# Altium integrated library TI Interface Display Driver.IntLib: 102 symbols (part 2 of 3)
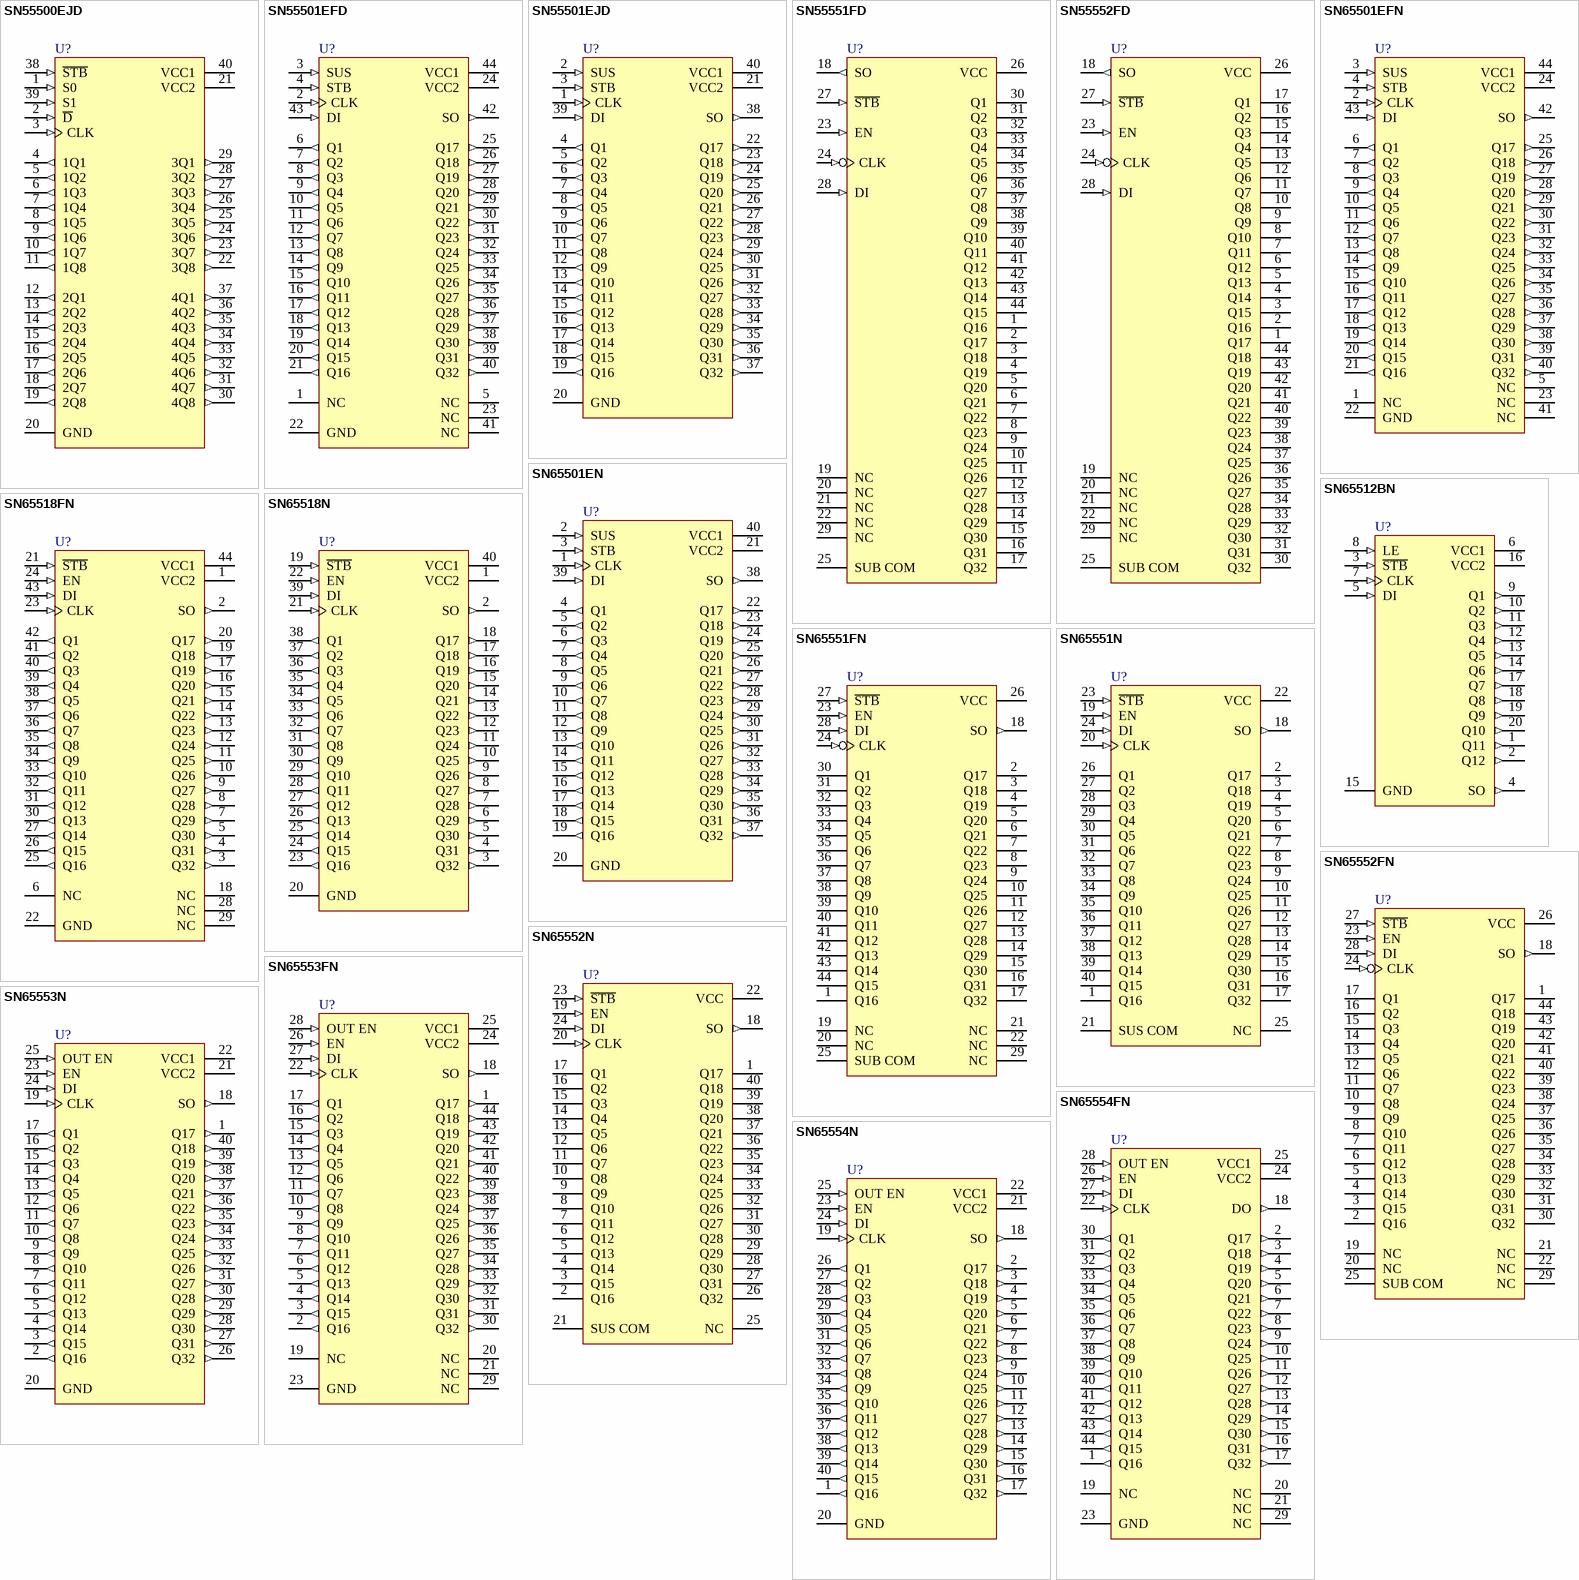
[diagram p5: symbols SN55500EJD to SN65554N]

## SN65552FN
designator U?
Electroluminescent Row Driver; Published: 15-May-2002; LatestRevisionDate: 13-Apr-2006; LatestRevisionNote: IPC-7351 Footprint Added.; DatasheetVersion: Oct-1989; PackageVersion: Oct-1994; PackageReference: FN044; Publisher: Altium Limited; PackageDescription: 44-Pin Leaded Chip Carrier 1.27 mm Pitch; Code_IPC: PLCC-44; ComponentLink1Description: Manufacturer Link; ComponentLink1URL: http://www.ti.com/
footprint FN044_N (Leaded Chip Carrier, 44-Leads, Body 16.6x16.6mm, Pitch 1.27mm, IPC Medium Density)
footprint FN044_L (Leaded Chip Carrier, 44-Leads, Body 16.6x16.6mm, Pitch 1.27mm, IPC High Density)
footprint FN044_M (Leaded Chip Carrier, 44-Leads, Body 16.6x16.6mm, Pitch 1.27mm, IPC Low Density)
3D model SN65552-FN044 (44-Pin Leaded Chip Carrier 1.27 mm Pitch)
pins: 1 Q17 (oc), 2 Q16 (oc), 3 Q15 (oc), 4 Q14 (oc), 5 Q13 (oc), 6 Q12 (oc), 7 Q11 (oc), 8 Q10 (oc), 9 Q9 (oc), 10 Q8 (oc), 11 Q7 (oc), 12 Q6 (oc), 13 Q5 (oc), 14 Q4 (oc), 15 Q3 (oc), 16 Q2 (oc), 17 Q1 (oc), 18 SO (out), 19 NC, 20 NC, 21 NC, 22 NC, 23 EN (in), 24 CLK (in), 25 SUB COM (power), 26 VCC (power), 27 ~{STB} (in), 28 DI (in), 29 NC, 30 Q32 (oc), 31 Q31 (oc), 32 Q30 (oc), 33 Q29 (oc), 34 Q28 (oc), 35 Q27 (oc), 36 Q26 (oc), 37 Q25 (oc), 38 Q24 (oc), 39 Q23 (oc), 40 Q22 (oc), 41 Q21 (oc), 42 Q20 (oc), 43 Q19 (oc), 44 Q18 (oc)

## SN65552N
designator U?
Electroluminescent Row Driver; Published: 15-May-2002; LatestRevisionDate: 29-May-2009; LatestRevisionNote: Component Body Added.; DatasheetVersion: Oct-1989; PackageVersion: Oct-1994; PackageReference: N040; Publisher: Altium Limited; PackageDescription: DIP, 40-Pin, Row Spacing 15.24 mm, Pitch 2.54 mm; Code_JEDEC: MS-011-AC; ComponentLink1Description: Manufacturer Link; ComponentLink1URL: http://www.ti.com/
footprint N040 (DIP, 40-Leads, Row Spacing 15.24mm, Pitch 2.54mm, Body 52.46x13.72mm)
3D model N040 (DIP, 40-Pin, Row Spacing 15.24 mm, Pitch 2.54 mm)
pins: 1 Q17 (oc), 2 Q16 (oc), 3 Q15 (oc), 4 Q14 (oc), 5 Q13 (oc), 6 Q12 (oc), 7 Q11 (oc), 8 Q10 (oc), 9 Q9 (oc), 10 Q8 (oc), 11 Q7 (oc), 12 Q6 (oc), 13 Q5 (oc), 14 Q4 (oc), 15 Q3 (oc), 16 Q2 (oc), 17 Q1 (oc), 18 SO (out), 19 EN (in), 20 CLK (in), 21 SUS COM (power), 22 VCC (power), 23 ~{STB} (in), 24 DI (in), 25 NC, 26 Q32 (oc), 27 Q31 (oc), 28 Q30 (oc), 29 Q29 (oc), 30 Q28 (oc), 31 Q27 (oc), 32 Q26 (oc), 33 Q25 (oc), 34 Q24 (oc), 35 Q23 (oc), 36 Q22 (oc), 37 Q21 (oc), 38 Q20 (oc), 39 Q19 (oc), 40 Q18 (oc)

## SN65553FN
designator U?
Electroluminescent Column Driver; Published: 15-May-2002; LatestRevisionDate: 13-Apr-2006; LatestRevisionNote: IPC-7351 Footprint Added.; DatasheetVersion: Dec-1989; PackageVersion: Oct-1994; PackageReference: FN044; Publisher: Altium Limited; PackageDescription: 44-Pin Leaded Chip Carrier 1.27 mm Pitch; Code_IPC: PLCC-44; ComponentLink1Description: Manufacturer Link; ComponentLink1URL: http://www.ti.com/
footprint FN044_N (Leaded Chip Carrier, 44-Leads, Body 16.6x16.6mm, Pitch 1.27mm, IPC Medium Density)
footprint FN044_L (Leaded Chip Carrier, 44-Leads, Body 16.6x16.6mm, Pitch 1.27mm, IPC High Density)
footprint FN044_M (Leaded Chip Carrier, 44-Leads, Body 16.6x16.6mm, Pitch 1.27mm, IPC Low Density)
3D model SN65553-FN044 (44-Pin Leaded Chip Carrier 1.27 mm Pitch)
pins: 1 Q17 (out), 2 Q16 (out), 3 Q15 (out), 4 Q14 (out), 5 Q13 (out), 6 Q12 (out), 7 Q11 (out), 8 Q10 (out), 9 Q9 (out), 10 Q8 (out), 11 Q7 (out), 12 Q6 (out), 13 Q5 (out), 14 Q4 (out), 15 Q3 (out), 16 Q2 (out), 17 Q1 (out), 18 SO (out), 19 NC, 20 NC, 21 NC, 22 CLK (in), 23 GND (power), 24 VCC2 (power), 25 VCC1 (power), 26 EN (in), 27 DI (in), 28 OUT EN (in), 29 NC, 30 Q32 (out), 31 Q31 (out), 32 Q30 (out), 33 Q29 (out), 34 Q28 (out), 35 Q27 (out), 36 Q26 (out), 37 Q25 (out), 38 Q24 (out), 39 Q23 (out), 40 Q22 (out), 41 Q21 (out), 42 Q20 (out), 43 Q19 (out), 44 Q18 (out)

## SN65553N
designator U?
Electroluminescent Column Driver; Published: 15-May-2002; LatestRevisionDate: 29-May-2009; LatestRevisionNote: Component Body Added.; DatasheetVersion: Dec-1989; PackageVersion: Oct-1994; PackageReference: N040; Publisher: Altium Limited; PackageDescription: DIP, 40-Pin, Row Spacing 15.24 mm, Pitch 2.54 mm; Code_JEDEC: MS-011-AC; ComponentLink1Description: Manufacturer Link; ComponentLink1URL: http://www.ti.com/
footprint N040 (DIP, 40-Leads, Row Spacing 15.24mm, Pitch 2.54mm, Body 52.46x13.72mm)
3D model N040 (DIP, 40-Pin, Row Spacing 15.24 mm, Pitch 2.54 mm)
pins: 1 Q17 (out), 2 Q16 (out), 3 Q15 (out), 4 Q14 (out), 5 Q13 (out), 6 Q12 (out), 7 Q11 (out), 8 Q10 (out), 9 Q9 (out), 10 Q8 (out), 11 Q7 (out), 12 Q6 (out), 13 Q5 (out), 14 Q4 (out), 15 Q3 (out), 16 Q2 (out), 17 Q1 (out), 18 SO (out), 19 CLK (in), 20 GND (power), 21 VCC2 (power), 22 VCC1 (power), 23 EN (in), 24 DI (in), 25 OUT EN (in), 26 Q32 (out), 27 Q31 (out), 28 Q30 (out), 29 Q29 (out), 30 Q28 (out), 31 Q27 (out), 32 Q26 (out), 33 Q25 (out), 34 Q24 (out), 35 Q23 (out), 36 Q22 (out), 37 Q21 (out), 38 Q20 (out), 39 Q19 (out), 40 Q18 (out)

## SN65554FN
designator U?
Electroluminescent Column Driver; Published: 15-May-2002; LatestRevisionDate: 13-Apr-2006; LatestRevisionNote: IPC-7351 Footprint Added.; DatasheetVersion: Dec-1989; PackageVersion: Oct-1994; PackageReference: FN044; Publisher: Altium Limited; PackageDescription: 44-Pin Leaded Chip Carrier 1.27 mm Pitch; Code_IPC: PLCC-44; ComponentLink1Description: Manufacturer Link; ComponentLink1URL: http://www.ti.com/
footprint FN044_N (Leaded Chip Carrier, 44-Leads, Body 16.6x16.6mm, Pitch 1.27mm, IPC Medium Density)
footprint FN044_L (Leaded Chip Carrier, 44-Leads, Body 16.6x16.6mm, Pitch 1.27mm, IPC High Density)
footprint FN044_M (Leaded Chip Carrier, 44-Leads, Body 16.6x16.6mm, Pitch 1.27mm, IPC Low Density)
3D model SN65554-FN044 (44-Pin Leaded Chip Carrier 1.27 mm Pitch)
pins: 1 Q16 (out), 2 Q17 (out), 3 Q18 (out), 4 Q19 (out), 5 Q20 (out), 6 Q21 (out), 7 Q22 (out), 8 Q23 (out), 9 Q24 (out), 10 Q25 (out), 11 Q26 (out), 12 Q27 (out), 13 Q28 (out), 14 Q29 (out), 15 Q30 (out), 16 Q31 (out), 17 Q32 (out), 18 DO (out), 19 NC, 20 NC, 21 NC, 22 CLK (in), 23 GND (power), 24 VCC2 (power), 25 VCC1 (power), 26 EN (in), 27 DI (in), 28 OUT EN (in), 29 NC, 30 Q1 (out), 31 Q2 (out), 32 Q3 (out), 33 Q4 (out), 34 Q5 (out), 35 Q6 (out), 36 Q7 (out), 37 Q8 (out), 38 Q9 (out), 39 Q10 (out), 40 Q11 (out), 41 Q12 (out), 42 Q13 (out), 43 Q14 (out), 44 Q15 (out)

## SN65554N
designator U?
Electroluminescent Column Driver; Published: 15-May-2002; LatestRevisionDate: 29-May-2009; LatestRevisionNote: Component Body Added.; DatasheetVersion: Dec-1989; PackageVersion: Oct-1994; PackageReference: N040; Publisher: Altium Limited; PackageDescription: DIP, 40-Pin, Row Spacing 15.24 mm, Pitch 2.54 mm; Code_JEDEC: MS-011-AC; ComponentLink1Description: Manufacturer Link; ComponentLink1URL: http://www.ti.com/
footprint N040 (DIP, 40-Leads, Row Spacing 15.24mm, Pitch 2.54mm, Body 52.46x13.72mm)
3D model N040 (DIP, 40-Pin, Row Spacing 15.24 mm, Pitch 2.54 mm)
pins: 1 Q16 (out), 2 Q17 (out), 3 Q18 (out), 4 Q19 (out), 5 Q20 (out), 6 Q21 (out), 7 Q22 (out), 8 Q23 (out), 9 Q24 (out), 10 Q25 (out), 11 Q26 (out), 12 Q27 (out), 13 Q28 (out), 14 Q29 (out), 15 Q30 (out), 16 Q31 (out), 17 Q32 (out), 18 SO (out), 19 CLK (in), 20 GND (power), 21 VCC2 (power), 22 VCC1 (power), 23 EN (in), 24 DI (in), 25 OUT EN (in), 26 Q1 (out), 27 Q2 (out), 28 Q3 (out), 29 Q4 (out), 30 Q5 (out), 31 Q6 (out), 32 Q7 (out), 33 Q8 (out), 34 Q9 (out), 35 Q10 (out), 36 Q11 (out), 37 Q12 (out), 38 Q13 (out), 39 Q14 (out), 40 Q15 (out)

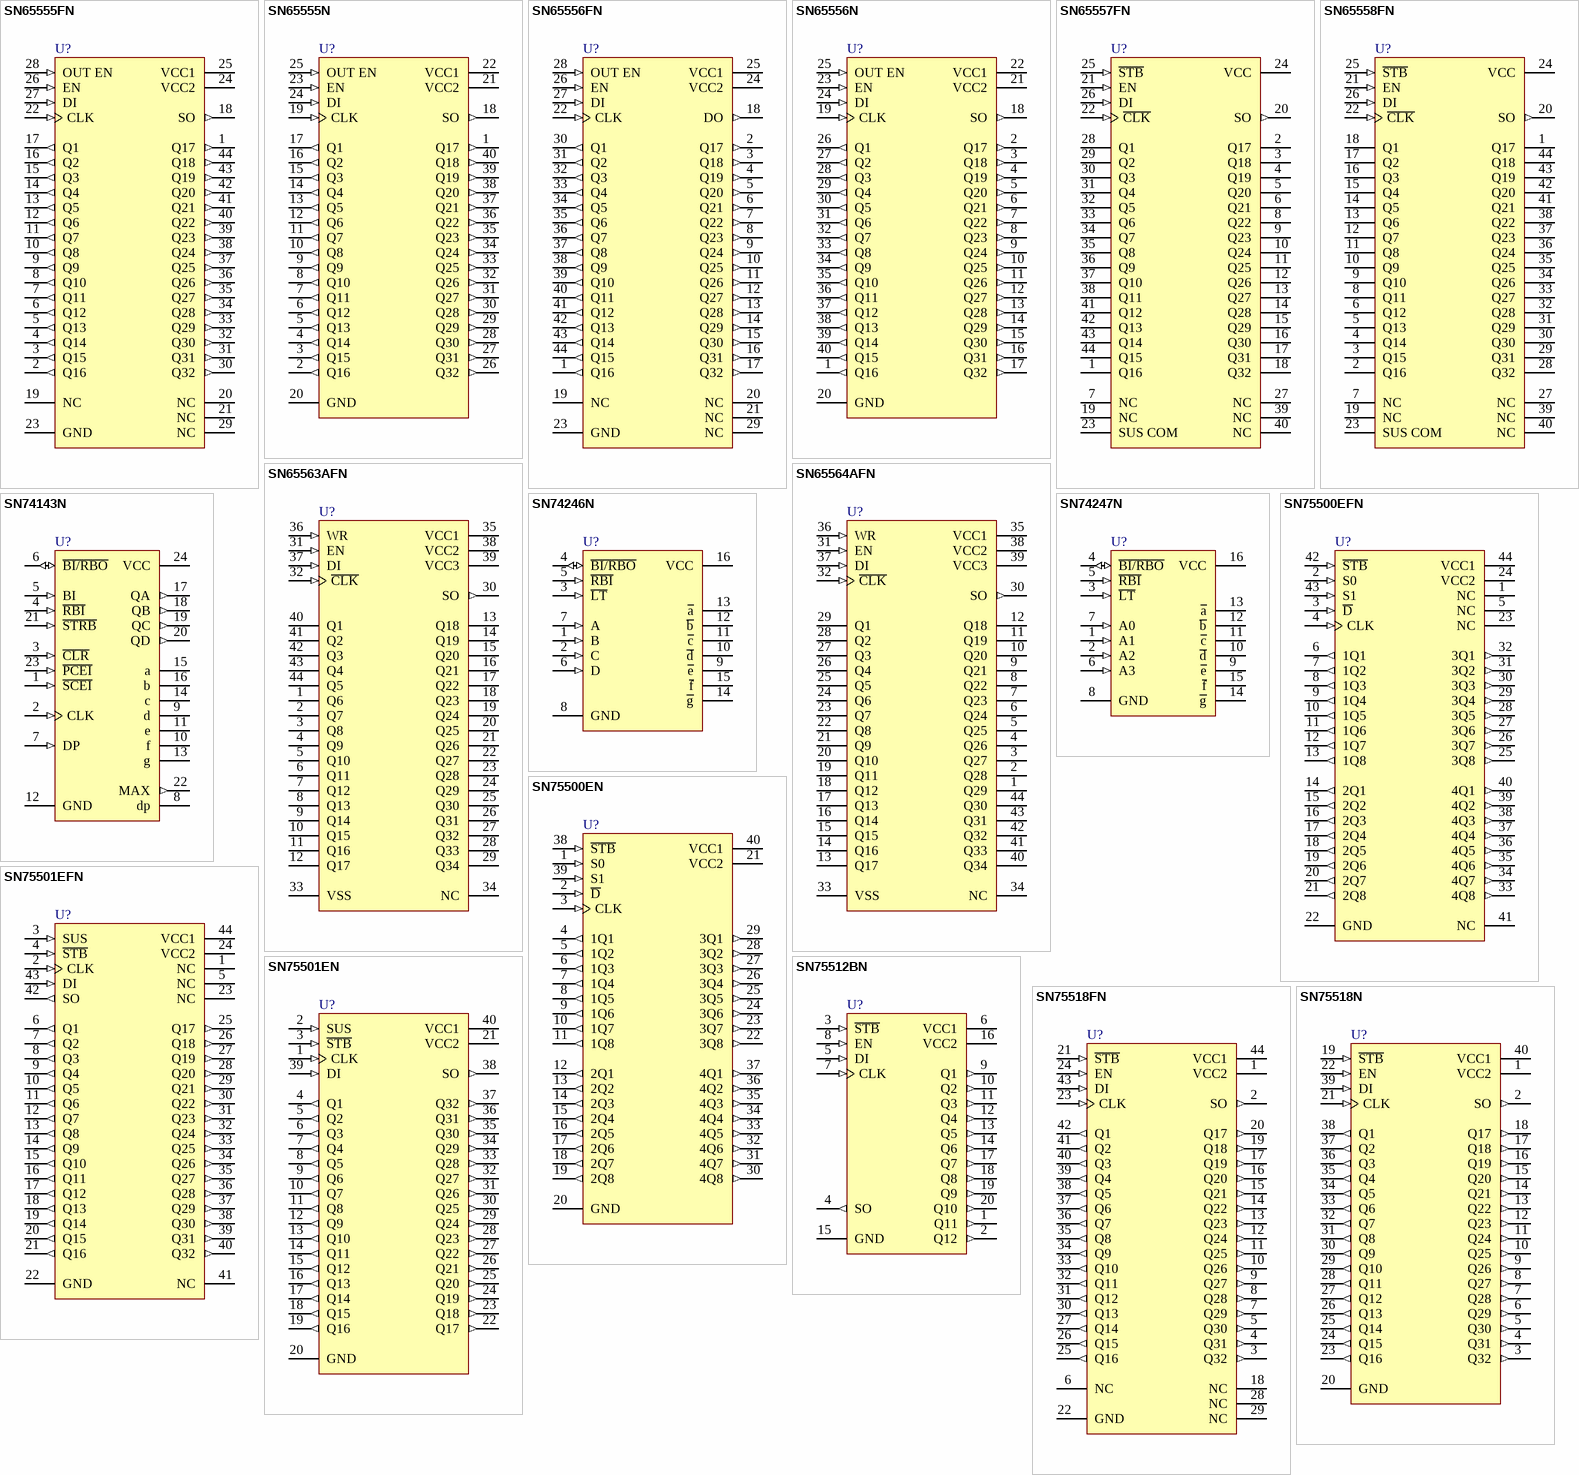
[diagram p2: symbols SN65555FN to SN75518N]

## SN65555FN
designator U?
Electroluminescent Column Driver; ComponentAvailability: Obsolete; Published: 15-May-2002; LatestRevisionDate: 13-Apr-2006; LatestRevisionNote: IPC-7351 Footprint Added.; DatasheetVersion: Jul-1990; PackageVersion: Oct-1994; PackageReference: FN044; Publisher: Altium Limited; PackageDescription: 44-Pin Leaded Chip Carrier 1.27 mm Pitch; Code_IPC: PLCC-44; ComponentLink1Description: Manufacturer Link; ComponentLink1URL: http://www.ti.com/; ComponentLink2Description: Datasheet; ComponentLink2URL: http://www-s.ti.com/sc/ds/sn65555.pdf; ComponentLink3Description: URL Link1; ComponentLink3URL: http://focus.ti.com/docs/prod/folders/print/sn65555.html
footprint FN044_N (Leaded Chip Carrier, 44-Leads, Body 16.6x16.6mm, Pitch 1.27mm, IPC Medium Density)
footprint FN044_L (Leaded Chip Carrier, 44-Leads, Body 16.6x16.6mm, Pitch 1.27mm, IPC High Density)
footprint FN044_M (Leaded Chip Carrier, 44-Leads, Body 16.6x16.6mm, Pitch 1.27mm, IPC Low Density)
3D model SN65555-FN044 (44-Pin Leaded Chip Carrier 1.27 mm Pitch)
pins: 1 Q17 (out), 2 Q16 (out), 3 Q15 (out), 4 Q14 (out), 5 Q13 (out), 6 Q12 (out), 7 Q11 (out), 8 Q10 (out), 9 Q9 (out), 10 Q8 (out), 11 Q7 (out), 12 Q6 (out), 13 Q5 (out), 14 Q4 (out), 15 Q3 (out), 16 Q2 (out), 17 Q1 (out), 18 SO (out), 19 NC, 20 NC, 21 NC, 22 CLK (in), 23 GND (power), 24 VCC2 (power), 25 VCC1 (power), 26 EN (in), 27 DI (in), 28 OUT EN (in), 29 NC, 30 Q32 (out), 31 Q31 (out), 32 Q30 (out), 33 Q29 (out), 34 Q28 (out), 35 Q27 (out), 36 Q26 (out), 37 Q25 (out), 38 Q24 (out), 39 Q23 (out), 40 Q22 (out), 41 Q21 (out), 42 Q20 (out), 43 Q19 (out), 44 Q18 (out)

## SN65555N
designator U?
Electroluminescent Column Driver; Published: 15-May-2002; LatestRevisionDate: 29-May-2009; LatestRevisionNote: Component Body Added.; DatasheetVersion: Jul-1990; PackageVersion: Oct-1994; PackageReference: N040; Publisher: Altium Limited; PackageDescription: DIP, 40-Pin, Row Spacing 15.24 mm, Pitch 2.54 mm; Code_JEDEC: MS-011-AC; ComponentLink1Description: Manufacturer Link; ComponentLink1URL: http://www.ti.com/; ComponentLink2Description: Datasheet; ComponentLink2URL: http://www-s.ti.com/sc/ds/sn65555.pdf
footprint N040 (DIP, 40-Leads, Row Spacing 15.24mm, Pitch 2.54mm, Body 52.46x13.72mm)
3D model N040 (DIP, 40-Pin, Row Spacing 15.24 mm, Pitch 2.54 mm)
pins: 1 Q17 (out), 2 Q16 (out), 3 Q15 (out), 4 Q14 (out), 5 Q13 (out), 6 Q12 (out), 7 Q11 (out), 8 Q10 (out), 9 Q9 (out), 10 Q8 (out), 11 Q7 (out), 12 Q6 (out), 13 Q5 (out), 14 Q4 (out), 15 Q3 (out), 16 Q2 (out), 17 Q1 (out), 18 SO (out), 19 CLK (in), 20 GND (power), 21 VCC2 (power), 22 VCC1 (power), 23 EN (in), 24 DI (in), 25 OUT EN (in), 26 Q32 (out), 27 Q31 (out), 28 Q30 (out), 29 Q29 (out), 30 Q28 (out), 31 Q27 (out), 32 Q26 (out), 33 Q25 (out), 34 Q24 (out), 35 Q23 (out), 36 Q22 (out), 37 Q21 (out), 38 Q20 (out), 39 Q19 (out), 40 Q18 (out)

## SN65556FN
designator U?
Electroluminescent Column Driver; ComponentAvailability: Obsolete; Published: 15-May-2002; LatestRevisionDate: 13-Apr-2006; LatestRevisionNote: IPC-7351 Footprint Added.; DatasheetVersion: Jul-1990; PackageVersion: Oct-1994; PackageReference: FN044; Publisher: Altium Limited; PackageDescription: 44-Pin Leaded Chip Carrier 1.27 mm Pitch; Code_IPC: PLCC-44; ComponentLink1Description: Manufacturer Link; ComponentLink1URL: http://www.ti.com/; ComponentLink2Description: Datasheet; ComponentLink2URL: http://www-s.ti.com/sc/ds/sn65555.pdf; ComponentLink3Description: URL Link1; ComponentLink3URL: http://focus.ti.com/docs/prod/folders/print/sn65556.html
footprint FN044_N (Leaded Chip Carrier, 44-Leads, Body 16.6x16.6mm, Pitch 1.27mm, IPC Medium Density)
footprint FN044_L (Leaded Chip Carrier, 44-Leads, Body 16.6x16.6mm, Pitch 1.27mm, IPC High Density)
footprint FN044_M (Leaded Chip Carrier, 44-Leads, Body 16.6x16.6mm, Pitch 1.27mm, IPC Low Density)
3D model SN65556-FN044 (44-Pin Leaded Chip Carrier 1.27 mm Pitch)
pins: 1 Q16 (out), 2 Q17 (out), 3 Q18 (out), 4 Q19 (out), 5 Q20 (out), 6 Q21 (out), 7 Q22 (out), 8 Q23 (out), 9 Q24 (out), 10 Q25 (out), 11 Q26 (out), 12 Q27 (out), 13 Q28 (out), 14 Q29 (out), 15 Q30 (out), 16 Q31 (out), 17 Q32 (out), 18 DO (out), 19 NC, 20 NC, 21 NC, 22 CLK (in), 23 GND (power), 24 VCC2 (power), 25 VCC1 (power), 26 EN (in), 27 DI (in), 28 OUT EN (in), 29 NC, 30 Q1 (out), 31 Q2 (out), 32 Q3 (out), 33 Q4 (out), 34 Q5 (out), 35 Q6 (out), 36 Q7 (out), 37 Q8 (out), 38 Q9 (out), 39 Q10 (out), 40 Q11 (out), 41 Q12 (out), 42 Q13 (out), 43 Q14 (out), 44 Q15 (out)

## SN65556N
designator U?
Electroluminescent Column Driver; Published: 15-May-2002; LatestRevisionDate: 29-May-2009; LatestRevisionNote: Component Body Added.; DatasheetVersion: Jul-1990; PackageVersion: Oct-1994; PackageReference: N040; Publisher: Altium Limited; PackageDescription: DIP, 40-Pin, Row Spacing 15.24 mm, Pitch 2.54 mm; Code_JEDEC: MS-011-AC; ComponentLink1Description: Manufacturer Link; ComponentLink1URL: http://www.ti.com/; ComponentLink2Description: Datasheet; ComponentLink2URL: http://www-s.ti.com/sc/ds/sn65555.pdf
footprint N040 (DIP, 40-Leads, Row Spacing 15.24mm, Pitch 2.54mm, Body 52.46x13.72mm)
3D model N040 (DIP, 40-Pin, Row Spacing 15.24 mm, Pitch 2.54 mm)
pins: 1 Q16 (out), 2 Q17 (out), 3 Q18 (out), 4 Q19 (out), 5 Q20 (out), 6 Q21 (out), 7 Q22 (out), 8 Q23 (out), 9 Q24 (out), 10 Q25 (out), 11 Q26 (out), 12 Q27 (out), 13 Q28 (out), 14 Q29 (out), 15 Q30 (out), 16 Q31 (out), 17 Q32 (out), 18 SO (out), 19 CLK (in), 20 GND (power), 21 VCC2 (power), 22 VCC1 (power), 23 EN (in), 24 DI (in), 25 OUT EN (in), 26 Q1 (out), 27 Q2 (out), 28 Q3 (out), 29 Q4 (out), 30 Q5 (out), 31 Q6 (out), 32 Q7 (out), 33 Q8 (out), 34 Q9 (out), 35 Q10 (out), 36 Q11 (out), 37 Q12 (out), 38 Q13 (out), 39 Q14 (out), 40 Q15 (out)

## SN65557FN
designator U?
Electroluminescent Row Driver; Published: 15-May-2002; LatestRevisionDate: 13-Apr-2006; LatestRevisionNote: IPC-7351 Footprint Added.; DatasheetVersion: Oct-1989; PackageVersion: Oct-1994; PackageReference: FN044; Publisher: Altium Limited; PackageDescription: 44-Pin Leaded Chip Carrier 1.27 mm Pitch; Code_IPC: PLCC-44; ComponentLink1Description: Manufacturer Link; ComponentLink1URL: http://www.ti.com/
footprint FN044_N (Leaded Chip Carrier, 44-Leads, Body 16.6x16.6mm, Pitch 1.27mm, IPC Medium Density)
footprint FN044_L (Leaded Chip Carrier, 44-Leads, Body 16.6x16.6mm, Pitch 1.27mm, IPC High Density)
footprint FN044_M (Leaded Chip Carrier, 44-Leads, Body 16.6x16.6mm, Pitch 1.27mm, IPC Low Density)
3D model SN65557-FN044 (44-Pin Leaded Chip Carrier 1.27 mm Pitch)
pins: 1 Q16 (oc), 2 Q17 (oc), 3 Q18 (oc), 4 Q19 (oc), 5 Q20 (oc), 6 Q21 (oc), 7 NC, 8 Q22 (oc), 9 Q23 (oc), 10 Q24 (oc), 11 Q25 (oc), 12 Q26 (oc), 13 Q27 (oc), 14 Q28 (oc), 15 Q29 (oc), 16 Q30 (oc), 17 Q31 (oc), 18 Q32 (oc), 19 NC, 20 SO (out), 21 EN (in), 22 ~{CLK} (in), 23 SUS COM (power), 24 VCC (power), 25 ~{STB} (in), 26 DI (in), 27 NC, 28 Q1 (oc), 29 Q2 (oc), 30 Q3 (oc), 31 Q4 (oc), 32 Q5 (oc), 33 Q6 (oc), 34 Q7 (oc), 35 Q8 (oc), 36 Q9 (oc), 37 Q10 (oc), 38 Q11 (oc), 39 NC, 40 NC, 41 Q12 (oc), 42 Q13 (oc), 43 Q14 (oc), 44 Q15 (oc)

## SN65558FN
designator U?
Electroluminescent Row Driver; Published: 15-May-2002; LatestRevisionDate: 13-Apr-2006; LatestRevisionNote: IPC-7351 Footprint Added.; DatasheetVersion: Oct-1989; PackageVersion: Oct-1994; PackageReference: FN044; Publisher: Altium Limited; PackageDescription: 44-Pin Leaded Chip Carrier 1.27 mm Pitch; Code_IPC: PLCC-44; ComponentLink1Description: Manufacturer Link; ComponentLink1URL: http://www.ti.com/
footprint FN044_N (Leaded Chip Carrier, 44-Leads, Body 16.6x16.6mm, Pitch 1.27mm, IPC Medium Density)
footprint FN044_L (Leaded Chip Carrier, 44-Leads, Body 16.6x16.6mm, Pitch 1.27mm, IPC High Density)
footprint FN044_M (Leaded Chip Carrier, 44-Leads, Body 16.6x16.6mm, Pitch 1.27mm, IPC Low Density)
3D model SN65558-FN044 (44-Pin Leaded Chip Carrier 1.27 mm Pitch)
pins: 1 Q17 (oc), 2 Q16 (oc), 3 Q15 (oc), 4 Q14 (oc), 5 Q13 (oc), 6 Q12 (oc), 7 NC, 8 Q11 (oc), 9 Q10 (oc), 10 Q9 (oc), 11 Q8 (oc), 12 Q7 (oc), 13 Q6 (oc), 14 Q5 (oc), 15 Q4 (oc), 16 Q3 (oc), 17 Q2 (oc), 18 Q1 (oc), 19 NC, 20 SO (out), 21 EN (in), 22 ~{CLK} (in), 23 SUS COM (power), 24 VCC (power), 25 ~{STB} (in), 26 DI (in), 27 NC, 28 Q32 (oc), 29 Q31 (oc), 30 Q30 (oc), 31 Q29 (oc), 32 Q28 (oc), 33 Q27 (oc), 34 Q26 (oc), 35 Q25 (oc), 36 Q24 (oc), 37 Q23 (oc), 38 Q22 (oc), 39 NC, 40 NC, 41 Q21 (oc), 42 Q20 (oc), 43 Q19 (oc), 44 Q18 (oc)

## SN65563AFN
designator U?
Electroluminescent Row Driver; Note: The 'POSITIVE WRITE' pin configures the 'Q' Outputs as OPEN EMITTER, or OPEN COLLECTOR.  Ensure 'Q' pins are the appropriate electrical type.; Published: 15-May-2002; LatestRevisionDate: 13-Apr-2006; LatestRevisionNote: IPC-7351 Footprint Added.; DatasheetVersion: Dec-1989; PackageVersion: Oct-1994; PackageReference: FN044; Publisher: Altium Limited; PackageDescription: 44-Pin Leaded Chip Carrier 1.27 mm Pitch; Code_IPC: PLCC-44; ComponentLink1Description: Manufacturer Link; ComponentLink1URL: http://www.ti.com/
footprint FN044_N (Leaded Chip Carrier, 44-Leads, Body 16.6x16.6mm, Pitch 1.27mm, IPC Medium Density)
footprint FN044_L (Leaded Chip Carrier, 44-Leads, Body 16.6x16.6mm, Pitch 1.27mm, IPC High Density)
footprint FN044_M (Leaded Chip Carrier, 44-Leads, Body 16.6x16.6mm, Pitch 1.27mm, IPC Low Density)
3D model SN65563A-FN044 (44-Pin Leaded Chip Carrier 1.27 mm Pitch)
pins: 1 Q6 (oe), 2 Q7 (oe), 3 Q8 (oe), 4 Q9 (oe), 5 Q10 (oe), 6 Q11 (oe), 7 Q12 (oe), 8 Q13 (oe), 9 Q14 (oe), 10 Q15 (oe), 11 Q16 (oe), 12 Q17 (oe), 13 Q18 (oe), 14 Q19 (oe), 15 Q20 (oe), 16 Q21 (oe), 17 Q22 (oe), 18 Q23 (oe), 19 Q24 (oe), 20 Q25 (oe), 21 Q26 (oe), 22 Q27 (oe), 23 Q28 (oe), 24 Q29 (oe), 25 Q30 (oe), 26 Q31 (oe), 27 Q32 (oe), 28 Q33 (oe), 29 Q34 (oe), 30 SO (out), 31 EN (in), 32 ~{CLK} (in), 33 VSS (power), 34 NC, 35 VCC1 (power), 36 WR (in), 37 DI (in), 38 VCC2 (power), 39 VCC3 (power), 40 Q1 (oe), 41 Q2 (oe), 42 Q3 (oe), 43 Q4 (oe), 44 Q5 (oe)

## SN65564AFN
designator U?
Electroluminescent Row Driver; Note: The 'POSITIVE WRITE' pin configures the 'Q' Outputs as OPEN EMITTER, or OPEN COLLECTOR.  Ensure 'Q' pins are the appropriate electrical type.; Published: 15-May-2002; LatestRevisionDate: 13-Apr-2006; LatestRevisionNote: IPC-7351 Footprint Added.; DatasheetVersion: Dec-1989; PackageVersion: Oct-1994; PackageReference: FN044; Publisher: Altium Limited; PackageDescription: 44-Pin Leaded Chip Carrier 1.27 mm Pitch; Code_IPC: PLCC-44; ComponentLink1Description: Manufacturer Link; ComponentLink1URL: http://www.ti.com/
footprint FN044_N (Leaded Chip Carrier, 44-Leads, Body 16.6x16.6mm, Pitch 1.27mm, IPC Medium Density)
footprint FN044_L (Leaded Chip Carrier, 44-Leads, Body 16.6x16.6mm, Pitch 1.27mm, IPC High Density)
footprint FN044_M (Leaded Chip Carrier, 44-Leads, Body 16.6x16.6mm, Pitch 1.27mm, IPC Low Density)
3D model SN65564A-FN044 (44-Pin Leaded Chip Carrier 1.27 mm Pitch)
pins: 1 Q29 (hiz), 2 Q28 (hiz), 3 Q27 (hiz), 4 Q26 (hiz), 5 Q25 (hiz), 6 Q24 (hiz), 7 Q23 (hiz), 8 Q22 (hiz), 9 Q21 (hiz), 10 Q20 (hiz), 11 Q19 (hiz), 12 Q18 (hiz), 13 Q17 (hiz), 14 Q16 (hiz), 15 Q15 (hiz), 16 Q14 (hiz), 17 Q13 (hiz), 18 Q12 (hiz), 19 Q11 (hiz), 20 Q10 (hiz), 21 Q9 (hiz), 22 Q8 (hiz), 23 Q7 (hiz), 24 Q6 (hiz), 25 Q5 (hiz), 26 Q4 (hiz), 27 Q3 (hiz), 28 Q2 (hiz), 29 Q1 (hiz), 30 SO (out), 31 EN (in), 32 ~{CLK} (in), 33 VSS (power), 34 NC, 35 VCC1 (power), 36 WR (in), 37 DI (in), 38 VCC2 (power), 39 VCC3 (power), 40 Q34 (hiz), 41 Q33 (hiz), 42 Q32 (hiz), 43 Q31 (hiz), 44 Q30 (hiz)

## SN74143N
designator U?
4-Bit Counter/Latch, Seven-Segment LED/Lamp Driver; Published: 8-Jun-2000; LatestRevisionDate: 29-May-2009; LatestRevisionNote: Component Body Added.; DatasheetVersion: Mar-1988; PackageVersion: Oct-1994; PackageReference: N024D; Publisher: Altium Limited; PackageDescription: DIP, 24-Pin, Row Spacing 15.24 mm, Pitch 2.54 mm; ComponentLink1Description: Manufacturer Link; ComponentLink1URL: http://www.ti.com/; ComponentLink2Description: Datasheet; ComponentLink2URL: http://www-s.ti.com/sc/ds/sn74143.pdf
footprint N024D (DIP, 24-Leads, Row Spacing 15.24mm, Pitch 2.54mm, Body 31.75x13.72mm)
3D model N024 (DIP, 24-Pin, Row Spacing 15.24 mm, Pitch 2.54 mm)
signal-integrity model SN74143N
pins: 1 ~{SCEI} (in), 2 CLK (in), 3 ~{CLR} (in), 4 ~{RBI} (in), 5 BI (in), 6 ~{BI/RBO} (io), 7 DP (in), 8 dp (oc), 9 d (oc), 10 f (oc), 11 e (oc), 12 GND (power), 13 g (oc), 14 c (oc), 15 a (oc), 16 b (oc), 17 QA (out), 18 QB (out), 19 QC (out), 20 QD (out), 21 ~{STRB} (in), 22 MAX (out), 23 ~{PCEI} (in), 24 VCC (power)

## SN74246N
designator U?
BCD-to-Seven-Segment Decoder/Driver; ComponentAvailability: Obsolete; Published: 8-Jun-2000; LatestRevisionDate: 29-May-2009; LatestRevisionNote: Component Body Added.; DatasheetVersion: Mar-1988; PackageVersion: Oct-1995; PackageReference: N016; Publisher: Altium Limited; PackageDescription: DIP, 16-Pin, Row Spacing 7.62 mm, Pitch 2.54 mm; Code_JEDEC: MS-001-BB; ComponentLink1Description: Manufacturer Link; ComponentLink1URL: http://www.ti.com/; ComponentLink2Description: Datasheet; ComponentLink2URL: http://www-s.ti.com/sc/ds/sn54ls247.pdf; ComponentLink3Description: URL Link1; ComponentLink3URL: http://focus.ti.com/docs/prod/folders/print/sn74246.html
footprint N016 (DIP, 16-Leads, Row Spacing 7.62mm, Pitch 2.54mm, Body 19.31x6.35mm)
3D model N016 (DIP, 16-Pin, Row Spacing 7.62 mm, Pitch 2.54 mm)
signal-integrity model SN74246N
pins: 1 B (in), 2 C (in), 3 ~{LT} (in), 4 ~{BI/RBO} (io), 5 ~{RBI} (in), 6 D (in), 7 A (in), 8 GND (power), 9 ~{e} (oc), 10 ~{d} (oc), 11 ~{c} (oc), 12 ~{b} (oc), 13 ~{a} (oc), 14 ~{g} (oc), 15 ~{f} (oc), 16 VCC (power)

## SN74247N
designator U?
BCD-to-Seven-Segment Decoder/Driver; ComponentAvailability: Obsolete; Published: 8-Jun-2000; LatestRevisionDate: 29-May-2009; LatestRevisionNote: Component Body Added.; DatasheetVersion: Mar-1988; PackageVersion: Oct-1995; PackageReference: N016; Publisher: Altium Limited; PackageDescription: DIP, 16-Pin, Row Spacing 7.62 mm, Pitch 2.54 mm; Code_JEDEC: MS-001-BB; ComponentLink1Description: Manufacturer Link; ComponentLink1URL: http://www.ti.com/; ComponentLink2Description: Datasheet; ComponentLink2URL: http://www-s.ti.com/sc/ds/sn54ls247.pdf; ComponentLink3Description: URL Link1; ComponentLink3URL: http://focus.ti.com/docs/prod/folders/print/sn74247.html
footprint N016 (DIP, 16-Leads, Row Spacing 7.62mm, Pitch 2.54mm, Body 19.31x6.35mm)
3D model N016 (DIP, 16-Pin, Row Spacing 7.62 mm, Pitch 2.54 mm)
signal-integrity model SN74247N
pins: 1 A1 (in), 2 A2 (in), 3 ~{LT} (in), 4 ~{BI/RBO} (io), 5 ~{RBI} (in), 6 A3 (in), 7 A0 (in), 8 GND (power), 9 ~{e} (oc), 10 ~{d} (oc), 11 ~{c} (oc), 12 ~{b} (oc), 13 ~{a} (oc), 14 ~{g} (oc), 15 ~{f} (oc), 16 VCC (power)

## SN75500EFN
designator U?
AC Plasma Display Driver; Published: 15-May-2002; LatestRevisionDate: 13-Apr-2006; LatestRevisionNote: IPC-7351 Footprint Added.; DatasheetVersion: Jul-1989; PackageVersion: Oct-1994; PackageReference: FN044; Publisher: Altium Limited; PackageDescription: 44-Pin Leaded Chip Carrier 1.27 mm Pitch; Code_IPC: PLCC-44; ComponentLink1Description: Manufacturer Link; ComponentLink1URL: http://www.ti.com/
footprint FN044_N (Leaded Chip Carrier, 44-Leads, Body 16.6x16.6mm, Pitch 1.27mm, IPC Medium Density)
footprint FN044_L (Leaded Chip Carrier, 44-Leads, Body 16.6x16.6mm, Pitch 1.27mm, IPC High Density)
footprint FN044_M (Leaded Chip Carrier, 44-Leads, Body 16.6x16.6mm, Pitch 1.27mm, IPC Low Density)
3D model SN75500E-FN044 (44-Pin Leaded Chip Carrier 1.27 mm Pitch)
pins: 1 NC, 2 S0 (in), 3 ~{D} (in), 4 CLK (in), 5 NC, 6 1Q1 (out), 7 1Q2 (out), 8 1Q3 (out), 9 1Q4 (out), 10 1Q5 (out), 11 1Q6 (out), 12 1Q7 (out), 13 1Q8 (out), 14 2Q1 (out), 15 2Q2 (out), 16 2Q3 (out), 17 2Q4 (out), 18 2Q5 (out), 19 2Q6 (out), 20 2Q7 (out), 21 2Q8 (out), 22 GND (power), 23 NC, 24 VCC2 (power), 25 3Q8 (out), 26 3Q7 (out), 27 3Q6 (out), 28 3Q5 (out), 29 3Q4 (out), 30 3Q3 (out), 31 3Q2 (out), 32 3Q1 (out), 33 4Q8 (out), 34 4Q7 (out), 35 4Q6 (out), 36 4Q5 (out), 37 4Q4 (out), 38 4Q3 (out), 39 4Q2 (out), 40 4Q1 (out), 41 NC, 42 ~{STB} (in), 43 S1 (in), 44 VCC1 (power)

## SN75500EN
designator U?
AC Plasma Display Driver; Published: 15-May-2002; LatestRevisionDate: 29-May-2009; LatestRevisionNote: Component Body Added.; DatasheetVersion: Jul-1989; PackageVersion: Oct-1994; PackageReference: N040; Publisher: Altium Limited; PackageDescription: DIP, 40-Pin, Row Spacing 15.24 mm, Pitch 2.54 mm; Code_JEDEC: MS-011-AC; ComponentLink1Description: Manufacturer Link; ComponentLink1URL: http://www.ti.com/
footprint N040 (DIP, 40-Leads, Row Spacing 15.24mm, Pitch 2.54mm, Body 52.46x13.72mm)
3D model N040 (DIP, 40-Pin, Row Spacing 15.24 mm, Pitch 2.54 mm)
pins: 1 S0 (in), 2 ~{D} (in), 3 CLK (in), 4 1Q1 (out), 5 1Q2 (out), 6 1Q3 (out), 7 1Q4 (out), 8 1Q5 (out), 9 1Q6 (out), 10 1Q7 (out), 11 1Q8 (out), 12 2Q1 (out), 13 2Q2 (out), 14 2Q3 (out), 15 2Q4 (out), 16 2Q5 (out), 17 2Q6 (out), 18 2Q7 (out), 19 2Q8 (out), 20 GND (power), 21 VCC2 (power), 22 3Q8 (out), 23 3Q7 (out), 24 3Q6 (out), 25 3Q5 (out), 26 3Q4 (out), 27 3Q3 (out), 28 3Q2 (out), 29 3Q1 (out), 30 4Q8 (out), 31 4Q7 (out), 32 4Q6 (out), 33 4Q5 (out), 34 4Q4 (out), 35 4Q3 (out), 36 4Q2 (out), 37 4Q1 (out), 38 ~{STB} (in), 39 S1 (in), 40 VCC1 (power)

## SN75501EFN
designator U?
AC Plasma Display Driver; Published: 15-May-2002; LatestRevisionDate: 13-Apr-2006; LatestRevisionNote: IPC-7351 Footprint Added.; DatasheetVersion: Oct-1989; PackageVersion: Oct-1994; PackageReference: FN044; Publisher: Altium Limited; PackageDescription: 44-Pin Leaded Chip Carrier 1.27 mm Pitch; Code_IPC: PLCC-44; ComponentLink1Description: Manufacturer Link; ComponentLink1URL: http://www.ti.com/
footprint FN044_N (Leaded Chip Carrier, 44-Leads, Body 16.6x16.6mm, Pitch 1.27mm, IPC Medium Density)
footprint FN044_L (Leaded Chip Carrier, 44-Leads, Body 16.6x16.6mm, Pitch 1.27mm, IPC High Density)
footprint FN044_M (Leaded Chip Carrier, 44-Leads, Body 16.6x16.6mm, Pitch 1.27mm, IPC Low Density)
3D model SN75501E-FN044 (44-Pin Leaded Chip Carrier 1.27 mm Pitch)
pins: 1 NC, 2 CLK (in), 3 SUS (in), 4 ~{STB} (in), 5 NC, 6 Q1 (out), 7 Q2 (out), 8 Q3 (out), 9 Q4 (out), 10 Q5 (out), 11 Q6 (out), 12 Q7 (out), 13 Q8 (out), 14 Q9 (out), 15 Q10 (out), 16 Q11 (out), 17 Q12 (out), 18 Q13 (out), 19 Q14 (out), 20 Q15 (out), 21 Q16 (out), 22 GND (power), 23 NC, 24 VCC2 (power), 25 Q17 (out), 26 Q18 (out), 27 Q19 (out), 28 Q20 (out), 29 Q21 (out), 30 Q22 (out), 31 Q23 (out), 32 Q24 (out), 33 Q25 (out), 34 Q26 (out), 35 Q27 (out), 36 Q28 (out), 37 Q29 (out), 38 Q30 (out), 39 Q31 (out), 40 Q32 (out), 41 NC, 42 SO (out), 43 DI (in), 44 VCC1 (power)

## SN75501EN
designator U?
AC Plasma Display Driver; Published: 15-May-2002; LatestRevisionDate: 29-May-2009; LatestRevisionNote: Component Body Added.; DatasheetVersion: Oct-1989; PackageVersion: Oct-1994; PackageReference: N040; Publisher: Altium Limited; PackageDescription: DIP, 40-Pin, Row Spacing 15.24 mm, Pitch 2.54 mm; Code_JEDEC: MS-011-AC; ComponentLink1Description: Manufacturer Link; ComponentLink1URL: http://www.ti.com/
footprint N040 (DIP, 40-Leads, Row Spacing 15.24mm, Pitch 2.54mm, Body 52.46x13.72mm)
3D model N040 (DIP, 40-Pin, Row Spacing 15.24 mm, Pitch 2.54 mm)
pins: 1 CLK (in), 2 SUS (in), 3 ~{STB} (in), 4 Q1 (out), 5 Q2 (out), 6 Q3 (out), 7 Q4 (out), 8 Q5 (out), 9 Q6 (out), 10 Q7 (out), 11 Q8 (out), 12 Q9 (out), 13 Q10 (out), 14 Q11 (out), 15 Q12 (out), 16 Q13 (out), 17 Q14 (out), 18 Q15 (out), 19 Q16 (out), 20 GND (power), 21 VCC2 (power), 22 Q17 (out), 23 Q18 (out), 24 Q19 (out), 25 Q20 (out), 26 Q21 (out), 27 Q22 (out), 28 Q23 (out), 29 Q24 (out), 30 Q25 (out), 31 Q26 (out), 32 Q27 (out), 33 Q28 (out), 34 Q29 (out), 35 Q30 (out), 36 Q31 (out), 37 Q32 (out), 38 SO (out), 39 DI (in), 40 VCC1 (power)

## SN75512BN
designator U?
Vacuum Fluorescent Display Driver; Published: 15-May-2002; LatestRevisionDate: 29-May-2009; LatestRevisionNote: Component Body Added.; DatasheetVersion: Oct-1989; PackageVersion: Oct-1995; PackageReference: N020; Publisher: Altium Limited; PackageDescription: DIP, 20-Pin, Row Spacing 7.62 mm, Pitch 2.54 mm; ComponentLink1Description: Manufacturer Link; ComponentLink1URL: http://www.ti.com/
footprint N020 (DIP, 20-Leads, Row Spacing 7.62mm, Pitch 2.54mm, Body 24.33x6.35mm)
3D model N020 (DIP, 20-Pin, Row Spacing 7.62 mm, Pitch 2.54 mm)
pins: 1 Q11 (out), 2 Q12 (out), 3 ~{STB} (in), 4 SO (out), 5 DI (in), 6 VCC1 (power), 7 CLK (in), 8 EN (in), 9 Q1 (out), 10 Q2 (out), 11 Q3 (out), 12 Q4 (out), 13 Q5 (out), 14 Q6 (out), 15 GND (power), 16 VCC2 (power), 17 Q7 (out), 18 Q8 (out), 19 Q9 (out), 20 Q10 (out)

## SN75518FN
designator U?
Vacuum Fluorescent Display Driver; ComponentAvailability: Obsolete; Published: 15-May-2002; LatestRevisionDate: 13-Apr-2006; LatestRevisionNote: IPC-7351 Footprint Added.; DatasheetVersion: May-1990; PackageVersion: Oct-1994; PackageReference: FN044; Publisher: Altium Limited; PackageDescription: 44-Pin Leaded Chip Carrier 1.27 mm Pitch; Code_IPC: PLCC-44; ComponentLink1Description: Manufacturer Link; ComponentLink1URL: http://www.ti.com/; ComponentLink2Description: Datasheet; ComponentLink2URL: http://www-s.ti.com/sc/ds/sn75518.pdf
footprint FN044_N (Leaded Chip Carrier, 44-Leads, Body 16.6x16.6mm, Pitch 1.27mm, IPC Medium Density)
footprint FN044_L (Leaded Chip Carrier, 44-Leads, Body 16.6x16.6mm, Pitch 1.27mm, IPC High Density)
footprint FN044_M (Leaded Chip Carrier, 44-Leads, Body 16.6x16.6mm, Pitch 1.27mm, IPC Low Density)
3D model SN75518-FN044 (44-Pin Leaded Chip Carrier 1.27 mm Pitch)
pins: 1 VCC2 (power), 2 SO (out), 3 Q32 (out), 4 Q31 (out), 5 Q30 (out), 6 NC, 7 Q29 (out), 8 Q28 (out), 9 Q27 (out), 10 Q26 (out), 11 Q25 (out), 12 Q24 (out), 13 Q23 (out), 14 Q22 (out), 15 Q21 (out), 16 Q20 (out), 17 Q19 (out), 18 NC, 19 Q18 (out), 20 Q17 (out), 21 ~{STB} (in), 22 GND (power), 23 CLK (in), 24 EN (in), 25 Q16 (out), 26 Q15 (out), 27 Q14 (out), 28 NC, 29 NC, 30 Q13 (out), 31 Q12 (out), 32 Q11 (out), 33 Q10 (out), 34 Q9 (out), 35 Q8 (out), 36 Q7 (out), 37 Q6 (out), 38 Q5 (out), 39 Q4 (out), 40 Q3 (out), 41 Q2 (out), 42 Q1 (out), 43 DI (in), 44 VCC1 (power)

## SN75518N
designator U?
Vacuum Fluorescent Display Driver; ComponentAvailability: Obsolete; Published: 15-May-2002; LatestRevisionDate: 29-May-2009; LatestRevisionNote: Component Body Added.; DatasheetVersion: May-1990; PackageVersion: Oct-1994; PackageReference: N040; Publisher: Altium Limited; PackageDescription: DIP, 40-Pin, Row Spacing 15.24 mm, Pitch 2.54 mm; Code_JEDEC: MS-011-AC; ComponentLink1Description: Manufacturer Link; ComponentLink1URL: http://www.ti.com/; ComponentLink2Description: Datasheet; ComponentLink2URL: http://www-s.ti.com/sc/ds/sn75518.pdf
footprint N040 (DIP, 40-Leads, Row Spacing 15.24mm, Pitch 2.54mm, Body 52.46x13.72mm)
3D model N040 (DIP, 40-Pin, Row Spacing 15.24 mm, Pitch 2.54 mm)
pins: 1 VCC2 (power), 2 SO (out), 3 Q32 (out), 4 Q31 (out), 5 Q30 (out), 6 Q29 (out), 7 Q28 (out), 8 Q27 (out), 9 Q26 (out), 10 Q25 (out), 11 Q24 (out), 12 Q23 (out), 13 Q22 (out), 14 Q21 (out), 15 Q20 (out), 16 Q19 (out), 17 Q18 (out), 18 Q17 (out), 19 ~{STB} (in), 20 GND (power), 21 CLK (in), 22 EN (in), 23 Q16 (out), 24 Q15 (out), 25 Q14 (out), 26 Q13 (out), 27 Q12 (out), 28 Q11 (out), 29 Q10 (out), 30 Q9 (out), 31 Q8 (out), 32 Q7 (out), 33 Q6 (out), 34 Q5 (out), 35 Q4 (out), 36 Q3 (out), 37 Q2 (out), 38 Q1 (out), 39 DI (in), 40 VCC1 (power)

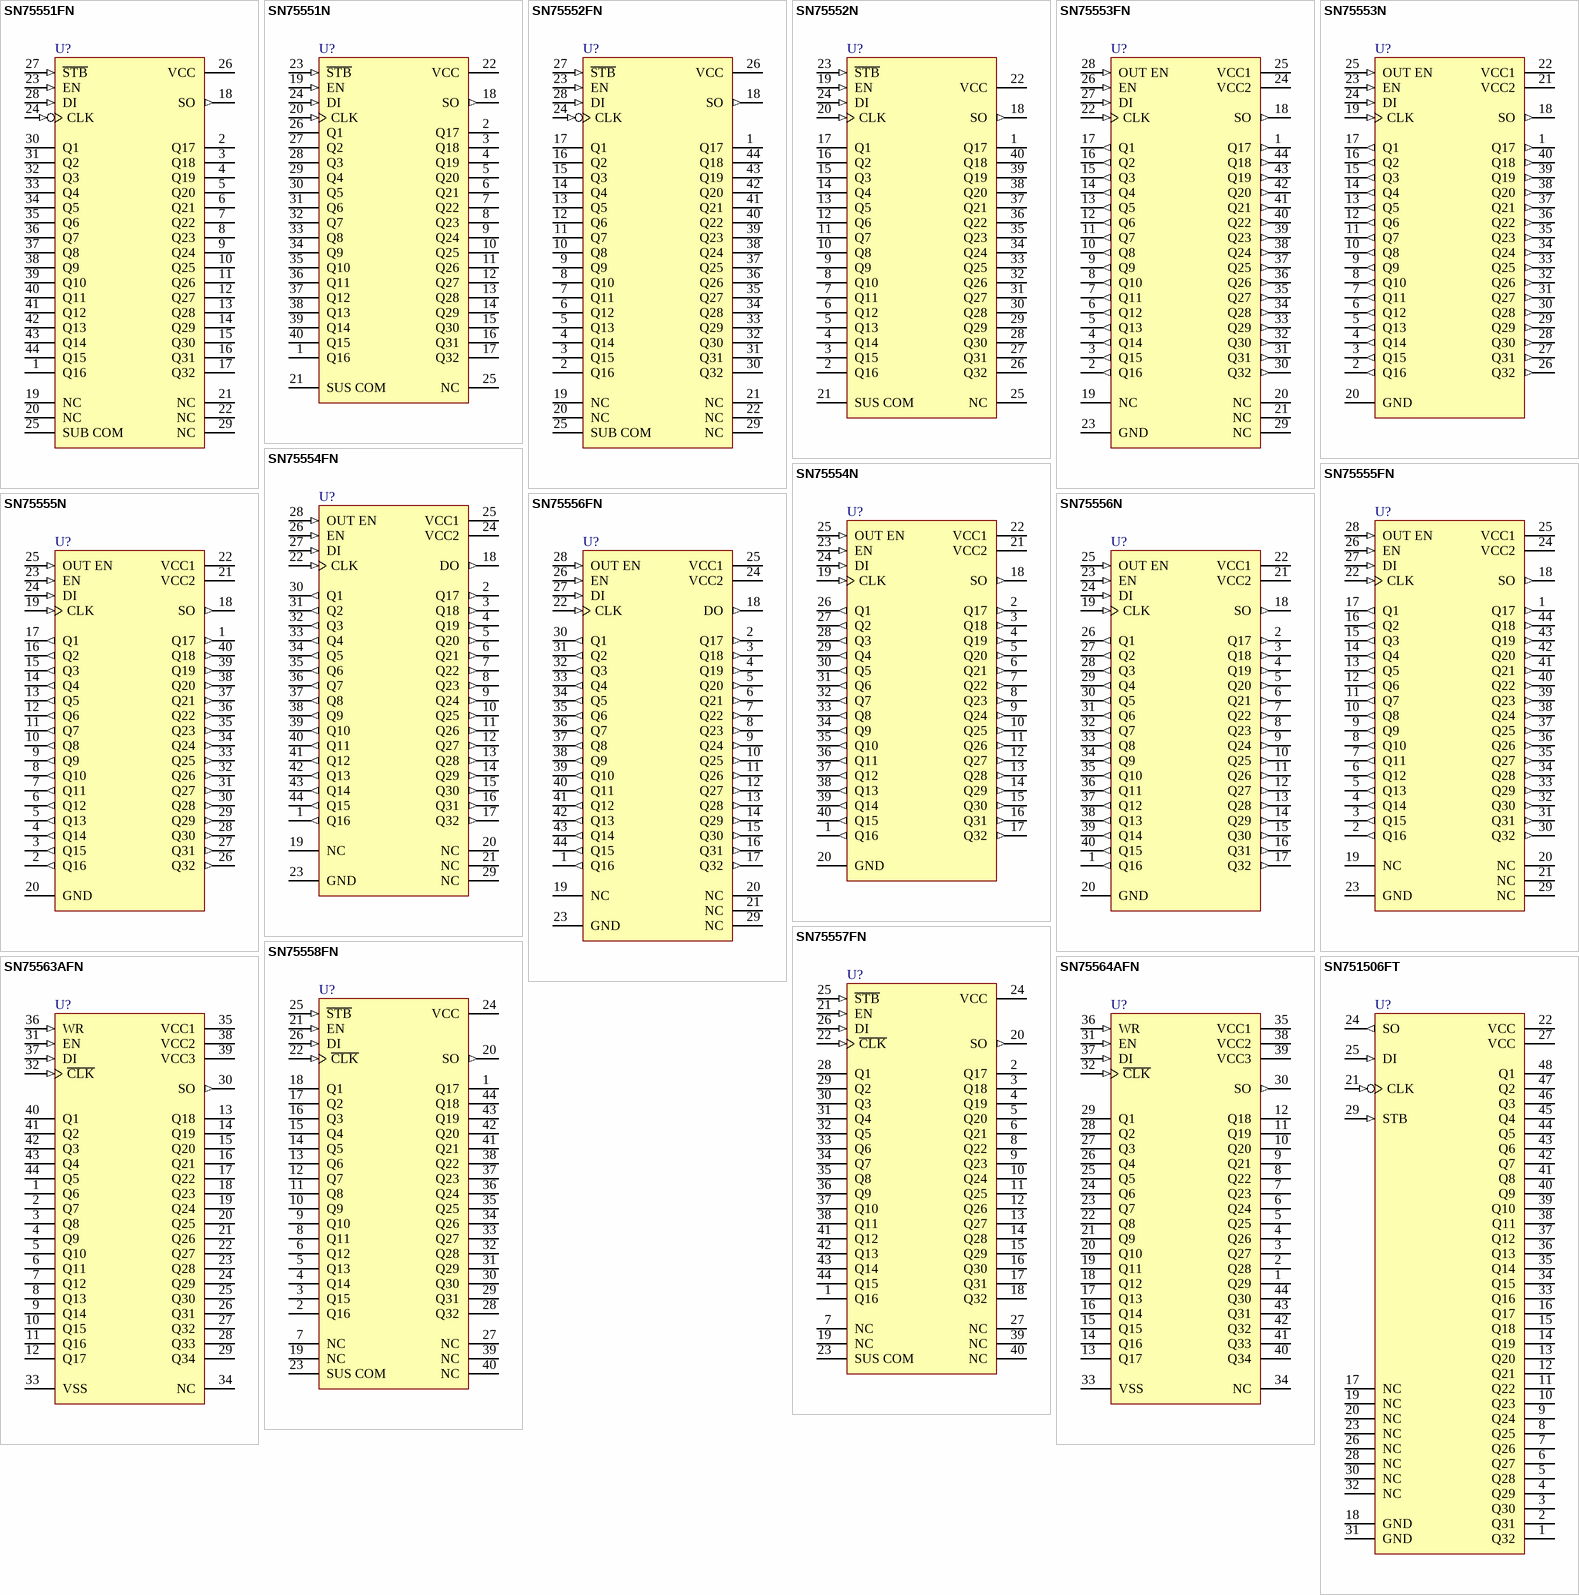
[diagram p3: symbols SN75551FN to SN751506FT]

## SN75551FN
designator U?
Electroluminescent Row Driver; Published: 15-May-2002; LatestRevisionDate: 13-Apr-2006; LatestRevisionNote: IPC-7351 Footprint Added.; DatasheetVersion: Oct-1989; PackageVersion: Oct-1994; PackageReference: FN044; Publisher: Altium Limited; PackageDescription: 44-Pin Leaded Chip Carrier 1.27 mm Pitch; Code_IPC: PLCC-44; ComponentLink1Description: Manufacturer Link; ComponentLink1URL: http://www.ti.com/
footprint FN044_N (Leaded Chip Carrier, 44-Leads, Body 16.6x16.6mm, Pitch 1.27mm, IPC Medium Density)
footprint FN044_L (Leaded Chip Carrier, 44-Leads, Body 16.6x16.6mm, Pitch 1.27mm, IPC High Density)
footprint FN044_M (Leaded Chip Carrier, 44-Leads, Body 16.6x16.6mm, Pitch 1.27mm, IPC Low Density)
3D model SN75551-FN044 (44-Pin Leaded Chip Carrier 1.27 mm Pitch)
pins: 1 Q16 (oc), 2 Q17 (oc), 3 Q18 (oc), 4 Q19 (oc), 5 Q20 (oc), 6 Q21 (oc), 7 Q22 (oc), 8 Q23 (oc), 9 Q24 (oc), 10 Q25 (oc), 11 Q26 (oc), 12 Q27 (oc), 13 Q28 (oc), 14 Q29 (oc), 15 Q30 (oc), 16 Q31 (oc), 17 Q32 (oc), 18 SO (out), 19 NC, 20 NC, 21 NC, 22 NC, 23 EN (in), 24 CLK (in), 25 SUB COM (power), 26 VCC (power), 27 ~{STB} (in), 28 DI (in), 29 NC, 30 Q1 (oc), 31 Q2 (oc), 32 Q3 (oc), 33 Q4 (oc), 34 Q5 (oc), 35 Q6 (oc), 36 Q7 (oc), 37 Q8 (oc), 38 Q9 (oc), 39 Q10 (oc), 40 Q11 (oc), 41 Q12 (oc), 42 Q13 (oc), 43 Q14 (oc), 44 Q15 (oc)

## SN75551N
designator U?
Electroluminescent Row Driver; Published: 15-May-2002; LatestRevisionDate: 29-May-2009; LatestRevisionNote: Component Body Added.; DatasheetVersion: Oct-1989; PackageVersion: Oct-1994; PackageReference: N040; Publisher: Altium Limited; PackageDescription: DIP, 40-Pin, Row Spacing 15.24 mm, Pitch 2.54 mm; Code_JEDEC: MS-011-AC; ComponentLink1Description: Manufacturer Link; ComponentLink1URL: http://www.ti.com/
footprint N040 (DIP, 40-Leads, Row Spacing 15.24mm, Pitch 2.54mm, Body 52.46x13.72mm)
3D model N040 (DIP, 40-Pin, Row Spacing 15.24 mm, Pitch 2.54 mm)
pins: 1 Q16 (oc), 2 Q17 (oc), 3 Q18 (oc), 4 Q19 (oc), 5 Q20 (oc), 6 Q21 (oc), 7 Q22 (oc), 8 Q23 (oc), 9 Q24 (oc), 10 Q25 (oc), 11 Q26 (oc), 12 Q27 (oc), 13 Q28 (oc), 14 Q29 (oc), 15 Q30 (oc), 16 Q31 (oc), 17 Q32 (oc), 18 SO (out), 19 EN (in), 20 CLK (in), 21 SUS COM (power), 22 VCC (power), 23 ~{STB} (in), 24 DI (in), 25 NC, 26 Q1 (oc), 27 Q2 (oc), 28 Q3 (oc), 29 Q4 (oc), 30 Q5 (oc), 31 Q6 (oc), 32 Q7 (oc), 33 Q8 (oc), 34 Q9 (oc), 35 Q10 (oc), 36 Q11 (oc), 37 Q12 (oc), 38 Q13 (oc), 39 Q14 (oc), 40 Q15 (oc)

## SN75552FN
designator U?
Electroluminescent Row Driver; Published: 15-May-2002; LatestRevisionDate: 13-Apr-2006; LatestRevisionNote: IPC-7351 Footprint Added.; DatasheetVersion: Oct-1989; PackageVersion: Oct-1994; PackageReference: FN044; Publisher: Altium Limited; PackageDescription: 44-Pin Leaded Chip Carrier 1.27 mm Pitch; Code_IPC: PLCC-44; ComponentLink1Description: Manufacturer Link; ComponentLink1URL: http://www.ti.com/
footprint FN044_N (Leaded Chip Carrier, 44-Leads, Body 16.6x16.6mm, Pitch 1.27mm, IPC Medium Density)
footprint FN044_L (Leaded Chip Carrier, 44-Leads, Body 16.6x16.6mm, Pitch 1.27mm, IPC High Density)
footprint FN044_M (Leaded Chip Carrier, 44-Leads, Body 16.6x16.6mm, Pitch 1.27mm, IPC Low Density)
3D model SN75552-FN044 (44-Pin Leaded Chip Carrier 1.27 mm Pitch)
pins: 1 Q17 (oc), 2 Q16 (oc), 3 Q15 (oc), 4 Q14 (oc), 5 Q13 (oc), 6 Q12 (oc), 7 Q11 (oc), 8 Q10 (oc), 9 Q9 (oc), 10 Q8 (oc), 11 Q7 (oc), 12 Q6 (oc), 13 Q5 (oc), 14 Q4 (oc), 15 Q3 (oc), 16 Q2 (oc), 17 Q1 (oc), 18 SO (out), 19 NC, 20 NC, 21 NC, 22 NC, 23 EN (in), 24 CLK (in), 25 SUB COM (power), 26 VCC (power), 27 ~{STB} (in), 28 DI (in), 29 NC, 30 Q32 (oc), 31 Q31 (oc), 32 Q30 (oc), 33 Q29 (oc), 34 Q28 (oc), 35 Q27 (oc), 36 Q26 (oc), 37 Q25 (oc), 38 Q24 (oc), 39 Q23 (oc), 40 Q22 (oc), 41 Q21 (oc), 42 Q20 (oc), 43 Q19 (oc), 44 Q18 (oc)

## SN75552N
designator U?
Electroluminescent Row Driver; Published: 15-May-2002; LatestRevisionDate: 29-May-2009; LatestRevisionNote: Component Body Added.; DatasheetVersion: Oct-1989; PackageVersion: Oct-1994; PackageReference: N040; Publisher: Altium Limited; PackageDescription: DIP, 40-Pin, Row Spacing 15.24 mm, Pitch 2.54 mm; Code_JEDEC: MS-011-AC; ComponentLink1Description: Manufacturer Link; ComponentLink1URL: http://www.ti.com/
footprint N040 (DIP, 40-Leads, Row Spacing 15.24mm, Pitch 2.54mm, Body 52.46x13.72mm)
3D model N040 (DIP, 40-Pin, Row Spacing 15.24 mm, Pitch 2.54 mm)
pins: 1 Q17 (oc), 2 Q16 (oc), 3 Q15 (oc), 4 Q14 (oc), 5 Q13 (oc), 6 Q12 (oc), 7 Q11 (oc), 8 Q10 (oc), 9 Q9 (oc), 10 Q8 (oc), 11 Q7 (oc), 12 Q6 (oc), 13 Q5 (oc), 14 Q4 (oc), 15 Q3 (oc), 16 Q2 (oc), 17 Q1 (oc), 18 SO (out), 19 EN (in), 20 CLK (in), 21 SUS COM (power), 22 VCC (power), 23 ~{STB} (in), 24 DI (in), 25 NC, 26 Q32 (oc), 27 Q31 (oc), 28 Q30 (oc), 29 Q29 (oc), 30 Q28 (oc), 31 Q27 (oc), 32 Q26 (oc), 33 Q25 (oc), 34 Q24 (oc), 35 Q23 (oc), 36 Q22 (oc), 37 Q21 (oc), 38 Q20 (oc), 39 Q19 (oc), 40 Q18 (oc)

## SN75553FN
designator U?
Electroluminescent Column Driver; Published: 15-May-2002; LatestRevisionDate: 13-Apr-2006; LatestRevisionNote: IPC-7351 Footprint Added.; DatasheetVersion: Dec-1989; PackageVersion: Oct-1994; PackageReference: FN044; Publisher: Altium Limited; PackageDescription: 44-Pin Leaded Chip Carrier 1.27 mm Pitch; Code_IPC: PLCC-44; ComponentLink1Description: Manufacturer Link; ComponentLink1URL: http://www.ti.com/
footprint FN044_N (Leaded Chip Carrier, 44-Leads, Body 16.6x16.6mm, Pitch 1.27mm, IPC Medium Density)
footprint FN044_L (Leaded Chip Carrier, 44-Leads, Body 16.6x16.6mm, Pitch 1.27mm, IPC High Density)
footprint FN044_M (Leaded Chip Carrier, 44-Leads, Body 16.6x16.6mm, Pitch 1.27mm, IPC Low Density)
3D model SN75553-FN044 (44-Pin Leaded Chip Carrier 1.27 mm Pitch)
pins: 1 Q17 (out), 2 Q16 (out), 3 Q15 (out), 4 Q14 (out), 5 Q13 (out), 6 Q12 (out), 7 Q11 (out), 8 Q10 (out), 9 Q9 (out), 10 Q8 (out), 11 Q7 (out), 12 Q6 (out), 13 Q5 (out), 14 Q4 (out), 15 Q3 (out), 16 Q2 (out), 17 Q1 (out), 18 SO (out), 19 NC, 20 NC, 21 NC, 22 CLK (in), 23 GND (power), 24 VCC2 (power), 25 VCC1 (power), 26 EN (in), 27 DI (in), 28 OUT EN (in), 29 NC, 30 Q32 (out), 31 Q31 (out), 32 Q30 (out), 33 Q29 (out), 34 Q28 (out), 35 Q27 (out), 36 Q26 (out), 37 Q25 (out), 38 Q24 (out), 39 Q23 (out), 40 Q22 (out), 41 Q21 (out), 42 Q20 (out), 43 Q19 (out), 44 Q18 (out)

## SN75553N
designator U?
Electroluminescent Column Driver; Published: 15-May-2002; LatestRevisionDate: 29-May-2009; LatestRevisionNote: Component Body Added.; DatasheetVersion: Dec-1989; PackageVersion: Oct-1994; PackageReference: N040; Publisher: Altium Limited; PackageDescription: DIP, 40-Pin, Row Spacing 15.24 mm, Pitch 2.54 mm; Code_JEDEC: MS-011-AC; ComponentLink1Description: Manufacturer Link; ComponentLink1URL: http://www.ti.com/
footprint N040 (DIP, 40-Leads, Row Spacing 15.24mm, Pitch 2.54mm, Body 52.46x13.72mm)
3D model N040 (DIP, 40-Pin, Row Spacing 15.24 mm, Pitch 2.54 mm)
pins: 1 Q17 (out), 2 Q16 (out), 3 Q15 (out), 4 Q14 (out), 5 Q13 (out), 6 Q12 (out), 7 Q11 (out), 8 Q10 (out), 9 Q9 (out), 10 Q8 (out), 11 Q7 (out), 12 Q6 (out), 13 Q5 (out), 14 Q4 (out), 15 Q3 (out), 16 Q2 (out), 17 Q1 (out), 18 SO (out), 19 CLK (in), 20 GND (power), 21 VCC2 (power), 22 VCC1 (power), 23 EN (in), 24 DI (in), 25 OUT EN (in), 26 Q32 (out), 27 Q31 (out), 28 Q30 (out), 29 Q29 (out), 30 Q28 (out), 31 Q27 (out), 32 Q26 (out), 33 Q25 (out), 34 Q24 (out), 35 Q23 (out), 36 Q22 (out), 37 Q21 (out), 38 Q20 (out), 39 Q19 (out), 40 Q18 (out)

## SN75554FN
designator U?
Electroluminescent Column Driver; Published: 15-May-2002; LatestRevisionDate: 13-Apr-2006; LatestRevisionNote: IPC-7351 Footprint Added.; DatasheetVersion: Dec-1989; PackageVersion: Oct-1994; PackageReference: FN044; Publisher: Altium Limited; PackageDescription: 44-Pin Leaded Chip Carrier 1.27 mm Pitch; Code_IPC: PLCC-44; ComponentLink1Description: Manufacturer Link; ComponentLink1URL: http://www.ti.com/
footprint FN044_N (Leaded Chip Carrier, 44-Leads, Body 16.6x16.6mm, Pitch 1.27mm, IPC Medium Density)
footprint FN044_L (Leaded Chip Carrier, 44-Leads, Body 16.6x16.6mm, Pitch 1.27mm, IPC High Density)
footprint FN044_M (Leaded Chip Carrier, 44-Leads, Body 16.6x16.6mm, Pitch 1.27mm, IPC Low Density)
3D model SN75554-FN044 (44-Pin Leaded Chip Carrier 1.27 mm Pitch)
pins: 1 Q16 (out), 2 Q17 (out), 3 Q18 (out), 4 Q19 (out), 5 Q20 (out), 6 Q21 (out), 7 Q22 (out), 8 Q23 (out), 9 Q24 (out), 10 Q25 (out), 11 Q26 (out), 12 Q27 (out), 13 Q28 (out), 14 Q29 (out), 15 Q30 (out), 16 Q31 (out), 17 Q32 (out), 18 DO (out), 19 NC, 20 NC, 21 NC, 22 CLK (in), 23 GND (power), 24 VCC2 (power), 25 VCC1 (power), 26 EN (in), 27 DI (in), 28 OUT EN (in), 29 NC, 30 Q1 (out), 31 Q2 (out), 32 Q3 (out), 33 Q4 (out), 34 Q5 (out), 35 Q6 (out), 36 Q7 (out), 37 Q8 (out), 38 Q9 (out), 39 Q10 (out), 40 Q11 (out), 41 Q12 (out), 42 Q13 (out), 43 Q14 (out), 44 Q15 (out)

## SN75554N
designator U?
Electroluminescent Column Driver; Published: 15-May-2002; LatestRevisionDate: 29-May-2009; LatestRevisionNote: Component Body Added.; DatasheetVersion: Dec-1989; PackageVersion: Oct-1994; PackageReference: N040; Publisher: Altium Limited; PackageDescription: DIP, 40-Pin, Row Spacing 15.24 mm, Pitch 2.54 mm; Code_JEDEC: MS-011-AC; ComponentLink1Description: Manufacturer Link; ComponentLink1URL: http://www.ti.com/
footprint N040 (DIP, 40-Leads, Row Spacing 15.24mm, Pitch 2.54mm, Body 52.46x13.72mm)
3D model N040 (DIP, 40-Pin, Row Spacing 15.24 mm, Pitch 2.54 mm)
pins: 1 Q16 (out), 2 Q17 (out), 3 Q18 (out), 4 Q19 (out), 5 Q20 (out), 6 Q21 (out), 7 Q22 (out), 8 Q23 (out), 9 Q24 (out), 10 Q25 (out), 11 Q26 (out), 12 Q27 (out), 13 Q28 (out), 14 Q29 (out), 15 Q30 (out), 16 Q31 (out), 17 Q32 (out), 18 SO (out), 19 CLK (in), 20 GND (power), 21 VCC2 (power), 22 VCC1 (power), 23 EN (in), 24 DI (in), 25 OUT EN (in), 26 Q1 (out), 27 Q2 (out), 28 Q3 (out), 29 Q4 (out), 30 Q5 (out), 31 Q6 (out), 32 Q7 (out), 33 Q8 (out), 34 Q9 (out), 35 Q10 (out), 36 Q11 (out), 37 Q12 (out), 38 Q13 (out), 39 Q14 (out), 40 Q15 (out)

## SN75555FN
designator U?
Electroluminescent Column Driver; ComponentAvailability: Obsolete; Published: 15-May-2002; LatestRevisionDate: 13-Apr-2006; LatestRevisionNote: IPC-7351 Footprint Added.; DatasheetVersion: Jul-1990; PackageVersion: Oct-1994; PackageReference: FN044; Publisher: Altium Limited; PackageDescription: 44-Pin Leaded Chip Carrier 1.27 mm Pitch; Code_IPC: PLCC-44; ComponentLink1Description: Manufacturer Link; ComponentLink1URL: http://www.ti.com/; ComponentLink2Description: Datasheet; ComponentLink2URL: http://www-s.ti.com/sc/ds/sn65555.pdf; ComponentLink3Description: URL Link1; ComponentLink3URL: http://focus.ti.com/docs/prod/folders/print/sn75555.html
footprint FN044_N (Leaded Chip Carrier, 44-Leads, Body 16.6x16.6mm, Pitch 1.27mm, IPC Medium Density)
footprint FN044_L (Leaded Chip Carrier, 44-Leads, Body 16.6x16.6mm, Pitch 1.27mm, IPC High Density)
footprint FN044_M (Leaded Chip Carrier, 44-Leads, Body 16.6x16.6mm, Pitch 1.27mm, IPC Low Density)
3D model SN75555-FN044 (44-Pin Leaded Chip Carrier 1.27 mm Pitch)
pins: 1 Q17 (out), 2 Q16 (out), 3 Q15 (out), 4 Q14 (out), 5 Q13 (out), 6 Q12 (out), 7 Q11 (out), 8 Q10 (out), 9 Q9 (out), 10 Q8 (out), 11 Q7 (out), 12 Q6 (out), 13 Q5 (out), 14 Q4 (out), 15 Q3 (out), 16 Q2 (out), 17 Q1 (out), 18 SO (out), 19 NC, 20 NC, 21 NC, 22 CLK (in), 23 GND (power), 24 VCC2 (power), 25 VCC1 (power), 26 EN (in), 27 DI (in), 28 OUT EN (in), 29 NC, 30 Q32 (out), 31 Q31 (out), 32 Q30 (out), 33 Q29 (out), 34 Q28 (out), 35 Q27 (out), 36 Q26 (out), 37 Q25 (out), 38 Q24 (out), 39 Q23 (out), 40 Q22 (out), 41 Q21 (out), 42 Q20 (out), 43 Q19 (out), 44 Q18 (out)

## SN75555N
designator U?
Electroluminescent Column Driver; ComponentAvailability: Obsolete; Published: 15-May-2002; LatestRevisionDate: 29-May-2009; LatestRevisionNote: Component Body Added.; DatasheetVersion: Jul-1990; PackageVersion: Oct-1994; PackageReference: N040; Publisher: Altium Limited; PackageDescription: DIP, 40-Pin, Row Spacing 15.24 mm, Pitch 2.54 mm; Code_JEDEC: MS-011-AC; ComponentLink1Description: Manufacturer Link; ComponentLink1URL: http://www.ti.com/; ComponentLink2Description: Datasheet; ComponentLink2URL: http://www-s.ti.com/sc/ds/sn65555.pdf; ComponentLink3Description: URL Link1; ComponentLink3URL: http://focus.ti.com/docs/prod/folders/print/sn75555.html
footprint N040 (DIP, 40-Leads, Row Spacing 15.24mm, Pitch 2.54mm, Body 52.46x13.72mm)
3D model N040 (DIP, 40-Pin, Row Spacing 15.24 mm, Pitch 2.54 mm)
pins: 1 Q17 (out), 2 Q16 (out), 3 Q15 (out), 4 Q14 (out), 5 Q13 (out), 6 Q12 (out), 7 Q11 (out), 8 Q10 (out), 9 Q9 (out), 10 Q8 (out), 11 Q7 (out), 12 Q6 (out), 13 Q5 (out), 14 Q4 (out), 15 Q3 (out), 16 Q2 (out), 17 Q1 (out), 18 SO (out), 19 CLK (in), 20 GND (power), 21 VCC2 (power), 22 VCC1 (power), 23 EN (in), 24 DI (in), 25 OUT EN (in), 26 Q32 (out), 27 Q31 (out), 28 Q30 (out), 29 Q29 (out), 30 Q28 (out), 31 Q27 (out), 32 Q26 (out), 33 Q25 (out), 34 Q24 (out), 35 Q23 (out), 36 Q22 (out), 37 Q21 (out), 38 Q20 (out), 39 Q19 (out), 40 Q18 (out)

## SN75556FN
designator U?
Electroluminescent Column Driver; ComponentAvailability: Obsolete; Published: 15-May-2002; LatestRevisionDate: 13-Apr-2006; LatestRevisionNote: IPC-7351 Footprint Added.; DatasheetVersion: Jul-1990; PackageVersion: Oct-1994; PackageReference: FN044; Publisher: Altium Limited; PackageDescription: 44-Pin Leaded Chip Carrier 1.27 mm Pitch; Code_IPC: PLCC-44; ComponentLink1Description: Manufacturer Link; ComponentLink1URL: http://www.ti.com/; ComponentLink2Description: Datasheet; ComponentLink2URL: http://www-s.ti.com/sc/ds/sn65555.pdf; ComponentLink3Description: URL Link1; ComponentLink3URL: http://focus.ti.com/docs/prod/folders/print/sn75556.html
footprint FN044_N (Leaded Chip Carrier, 44-Leads, Body 16.6x16.6mm, Pitch 1.27mm, IPC Medium Density)
footprint FN044_L (Leaded Chip Carrier, 44-Leads, Body 16.6x16.6mm, Pitch 1.27mm, IPC High Density)
footprint FN044_M (Leaded Chip Carrier, 44-Leads, Body 16.6x16.6mm, Pitch 1.27mm, IPC Low Density)
3D model SN75556-FN044 (44-Pin Leaded Chip Carrier 1.27 mm Pitch)
pins: 1 Q16 (out), 2 Q17 (out), 3 Q18 (out), 4 Q19 (out), 5 Q20 (out), 6 Q21 (out), 7 Q22 (out), 8 Q23 (out), 9 Q24 (out), 10 Q25 (out), 11 Q26 (out), 12 Q27 (out), 13 Q28 (out), 14 Q29 (out), 15 Q30 (out), 16 Q31 (out), 17 Q32 (out), 18 DO (out), 19 NC, 20 NC, 21 NC, 22 CLK (in), 23 GND (power), 24 VCC2 (power), 25 VCC1 (power), 26 EN (in), 27 DI (in), 28 OUT EN (in), 29 NC, 30 Q1 (out), 31 Q2 (out), 32 Q3 (out), 33 Q4 (out), 34 Q5 (out), 35 Q6 (out), 36 Q7 (out), 37 Q8 (out), 38 Q9 (out), 39 Q10 (out), 40 Q11 (out), 41 Q12 (out), 42 Q13 (out), 43 Q14 (out), 44 Q15 (out)

## SN75556N
designator U?
Electroluminescent Column Driver; ComponentAvailability: Obsolete; Published: 15-May-2002; LatestRevisionDate: 29-May-2009; LatestRevisionNote: Component Body Added.; DatasheetVersion: Jul-1990; PackageVersion: Oct-1994; PackageReference: N040; Publisher: Altium Limited; PackageDescription: DIP, 40-Pin, Row Spacing 15.24 mm, Pitch 2.54 mm; Code_JEDEC: MS-011-AC; ComponentLink1Description: Manufacturer Link; ComponentLink1URL: http://www.ti.com/; ComponentLink2Description: Datasheet; ComponentLink2URL: http://www-s.ti.com/sc/ds/sn65555.pdf; ComponentLink3Description: URL Link1; ComponentLink3URL: http://focus.ti.com/docs/prod/folders/print/sn75556.html
footprint N040 (DIP, 40-Leads, Row Spacing 15.24mm, Pitch 2.54mm, Body 52.46x13.72mm)
3D model N040 (DIP, 40-Pin, Row Spacing 15.24 mm, Pitch 2.54 mm)
pins: 1 Q16 (out), 2 Q17 (out), 3 Q18 (out), 4 Q19 (out), 5 Q20 (out), 6 Q21 (out), 7 Q22 (out), 8 Q23 (out), 9 Q24 (out), 10 Q25 (out), 11 Q26 (out), 12 Q27 (out), 13 Q28 (out), 14 Q29 (out), 15 Q30 (out), 16 Q31 (out), 17 Q32 (out), 18 SO (out), 19 CLK (in), 20 GND (power), 21 VCC2 (power), 22 VCC1 (power), 23 EN (in), 24 DI (in), 25 OUT EN (in), 26 Q1 (out), 27 Q2 (out), 28 Q3 (out), 29 Q4 (out), 30 Q5 (out), 31 Q6 (out), 32 Q7 (out), 33 Q8 (out), 34 Q9 (out), 35 Q10 (out), 36 Q11 (out), 37 Q12 (out), 38 Q13 (out), 39 Q14 (out), 40 Q15 (out)

## SN75557FN
designator U?
Electroluminescent Row Driver; Published: 15-May-2002; LatestRevisionDate: 13-Apr-2006; LatestRevisionNote: IPC-7351 Footprint Added.; DatasheetVersion: Oct-1989; PackageVersion: Oct-1994; PackageReference: FN044; Publisher: Altium Limited; PackageDescription: 44-Pin Leaded Chip Carrier 1.27 mm Pitch; Code_IPC: PLCC-44; ComponentLink1Description: Manufacturer Link; ComponentLink1URL: http://www.ti.com/
footprint FN044_N (Leaded Chip Carrier, 44-Leads, Body 16.6x16.6mm, Pitch 1.27mm, IPC Medium Density)
footprint FN044_L (Leaded Chip Carrier, 44-Leads, Body 16.6x16.6mm, Pitch 1.27mm, IPC High Density)
footprint FN044_M (Leaded Chip Carrier, 44-Leads, Body 16.6x16.6mm, Pitch 1.27mm, IPC Low Density)
3D model SN75557-FN044 (44-Pin Leaded Chip Carrier 1.27 mm Pitch)
pins: 1 Q16 (oc), 2 Q17 (oc), 3 Q18 (oc), 4 Q19 (oc), 5 Q20 (oc), 6 Q21 (oc), 7 NC, 8 Q22 (oc), 9 Q23 (oc), 10 Q24 (oc), 11 Q25 (oc), 12 Q26 (oc), 13 Q27 (oc), 14 Q28 (oc), 15 Q29 (oc), 16 Q30 (oc), 17 Q31 (oc), 18 Q32 (oc), 19 NC, 20 SO (out), 21 EN (in), 22 ~{CLK} (in), 23 SUS COM (power), 24 VCC (power), 25 ~{STB} (in), 26 DI (in), 27 NC, 28 Q1 (oc), 29 Q2 (oc), 30 Q3 (oc), 31 Q4 (oc), 32 Q5 (oc), 33 Q6 (oc), 34 Q7 (oc), 35 Q8 (oc), 36 Q9 (oc), 37 Q10 (oc), 38 Q11 (oc), 39 NC, 40 NC, 41 Q12 (oc), 42 Q13 (oc), 43 Q14 (oc), 44 Q15 (oc)

## SN75558FN
designator U?
Electroluminescent Row Driver; Published: 15-May-2002; LatestRevisionDate: 13-Apr-2006; LatestRevisionNote: IPC-7351 Footprint Added.; DatasheetVersion: Oct-1989; PackageVersion: Oct-1994; PackageReference: FN044; Publisher: Altium Limited; PackageDescription: 44-Pin Leaded Chip Carrier 1.27 mm Pitch; Code_IPC: PLCC-44; ComponentLink1Description: Manufacturer Link; ComponentLink1URL: http://www.ti.com/
footprint FN044_N (Leaded Chip Carrier, 44-Leads, Body 16.6x16.6mm, Pitch 1.27mm, IPC Medium Density)
footprint FN044_L (Leaded Chip Carrier, 44-Leads, Body 16.6x16.6mm, Pitch 1.27mm, IPC High Density)
footprint FN044_M (Leaded Chip Carrier, 44-Leads, Body 16.6x16.6mm, Pitch 1.27mm, IPC Low Density)
3D model SN75558-FN044 (44-Pin Leaded Chip Carrier 1.27 mm Pitch)
pins: 1 Q17 (oc), 2 Q16 (oc), 3 Q15 (oc), 4 Q14 (oc), 5 Q13 (oc), 6 Q12 (oc), 7 NC, 8 Q11 (oc), 9 Q10 (oc), 10 Q9 (oc), 11 Q8 (oc), 12 Q7 (oc), 13 Q6 (oc), 14 Q5 (oc), 15 Q4 (oc), 16 Q3 (oc), 17 Q2 (oc), 18 Q1 (oc), 19 NC, 20 SO (out), 21 EN (in), 22 ~{CLK} (in), 23 SUS COM (power), 24 VCC (power), 25 ~{STB} (in), 26 DI (in), 27 NC, 28 Q32 (oc), 29 Q31 (oc), 30 Q30 (oc), 31 Q29 (oc), 32 Q28 (oc), 33 Q27 (oc), 34 Q26 (oc), 35 Q25 (oc), 36 Q24 (oc), 37 Q23 (oc), 38 Q22 (oc), 39 NC, 40 NC, 41 Q21 (oc), 42 Q20 (oc), 43 Q19 (oc), 44 Q18 (oc)